# Altium schematic symbol library SnapEDAsch.SchLib: 1 symbol
Pins are listed as number, name and electrical type; pins without a type are passive.

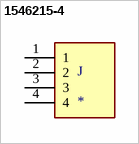
[diagram p0: symbol 1546215-4]

## 1546215-4
designator J
Conn Terminal Block 4 POS 2.54mm Solder ST Thru-Hole; MF: TE Connectivity; MP: 1546215-4; Value: *; TE_purchase_URL: https://www.te.com/usa-en/product-1546215-4.html?te_bu=Cor&te_type=disp&te_campaign=seda_glo_cor-seda-global-disp-prtnr-fy19-seda-model-bom-cta_sma-317_1&elqCampaignId=32493; Price: None; Package: None; SnapEDA_Link: https://www.snapeda.com/parts/1546215-4/TE%20Connectivity%20AMP%20Connectors/view-part/2882509/?ref=snap; Availability: Unavailable
footprint TE_1546215-4
pins: 1, 2, 3, 4